# Altium integrated library RES-TRIMMER.IntLib: 1 symbol
Pins are listed as number, name and electrical type; pins without a type are passive.

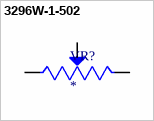
[diagram p0: symbol 3296W-1-502]

## 3296W-1-502
designator VR?
NON-RoHS, 3/8 Sq, Thru-Hole, TRIMMER, 5 Kohms, Cermet, 25 Turns, Pwr-Rtg 0.5W | Bourns 3296W-1-502; SnapEDA_Link: https://www.snapeda.com/parts/3296W-1-502/Bourns/view-part/?ref=snap; Package: NON STANDARD-3 Bourns; Value: *; MF: Bourns; MP: 3296W-1-502; Check_prices: https://www.snapeda.com/parts/3296W-1-502/Bourns/view-part/?ref=eda
footprint TRIM_3296W-1-502
pins: 1 CCW, 2 WIPER, 3 CW